# Altium schematic symbol library 4759.SCHLIB: 1 symbol
Pins are listed as number, name and electrical type; pins without a type are passive.

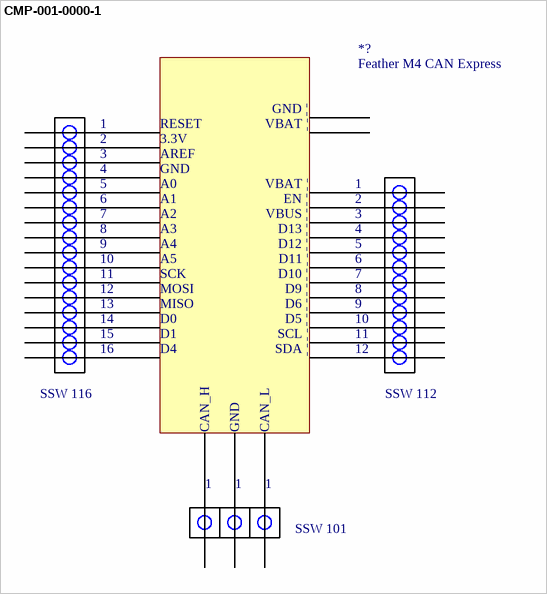
[diagram p0: symbol CMP-001-0000-1]

## CMP-001-0000-1
designator *?, comment Feather M4 CAN Express
Feather M4 Microcontroller with CAN; Component Type: Miscellaneous
footprint Feather M4 CAN Express-Footprint-1; pin to pad VBAT>null
pins: 3.3V, A0, A1, A2, A3, A4, A5, AREF, CAN_H, CAN_L, D0, D1, D4, D5, D6, D9, D10, D11, D12, D13, EN, GND, GND, MISO, MOSI, RESET, SCK, SCL, SDA, VBAT, VBUS
text: GND |; 1; VBAT |; 2; 3; 4; 5; 6; EN |; 7; VBUS |; 8; D13 |; 9; D12 |; 10; D11 |; 11; D10 |; 12; D9 |; 13; D6 |; 14; D5 |; 15; SCL |; 16; SDA |; SSW 116; SSW 112; SSW 101